# Altium footprint library bgm111.PcbLib: 1 footprints
Each footprint in its own frame and in the unit in brackets; x right, y up, seen from the top. Pads: shape width x height; smd on the part's side, far side on the other; paste and mask are expansions set on the pad; w line width, h text height; cw(c..) or ccw(c..) is an arc to the next point about the centre after c.
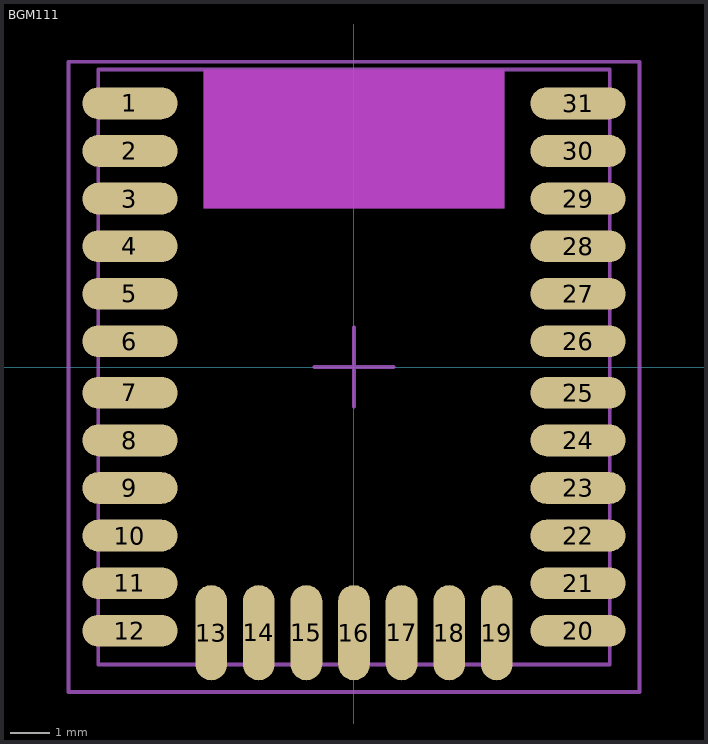
[diagram p0: the footprint, top view; thin cyan lines are the x and y axes]

## BGM111 [mm] "BLUEGIGA BLE4.2 MODULE"
height 2.2
pads (31):
  rrect100% 2.4x0.8 smd: 1(-5.65,6.65) 2(-5.65,5.45) 3(-5.65,4.25) 4(-5.65,3.05) 5(-5.65,1.85) 6(-5.65,0.65) 7(-5.65,-0.65) 8(-5.65,-1.85) 9(-5.65,-3.05) 10(-5.65,-4.25) 11(-5.65,-5.45) 12(-5.65,-6.65) 20(5.65,-6.65) 21(5.65,-5.45) 22(5.65,-4.25) 23(5.65,-3.05) 24(5.65,-1.85) 25(5.65,-0.65) 26(5.65,0.65) 27(5.65,1.85) 28(5.65,3.05) 29(5.65,4.25) 30(5.65,5.45) 31(5.65,6.65)
  rrect100% 0.8x2.4 smd: 13(-3.6,-6.7) 14(-2.4,-6.7) 15(-1.2,-6.7) 16(0,-6.7) 17(1.2,-6.7) 18(2.4,-6.7) 19(3.6,-6.7)
Mechanical 13:
  lines w0.1: -6.45,-7.5 6.45,-7.5 6.45,7.5 -6.45,7.5 -6.45,-7.5
Mechanical 13 keep-out:
  rectangle: -3.8,4 3.8,7.5
Mechanical 15:
  lines w0.1: -1,0 1,0 ; 0,-1 0,1 ; -7.2,-8.2 -7.2,7.7 7.2,7.7 7.2,-8.2 -7.2,-8.2
3D body: height 2.2, standoff 0, extent -6.45,-7.5 6.45,7.5